# EAGLE library part CY8C29466-28PIN (library FlashPCB_ICs)
CY8C29466 - 32KB FLASH 28SOIC Technical Specifications: Number of I/O: 24 Core Size: 8-Bit Speed: 24MHz Voltage - Supply (Vcc/Vdd): 3V ~ 5.25V Operating Temperature: -40°C ~ 85°C (TA) Component Search: CY8C29466/CY8C29566/CY8C29666/CY8C29866, PSoC® Programmable System-on-Chip™ <[FLASHPCB URL]> Datasheet: CY8C29466/CY8C29566/CY8C29666/CY8C29866, PSoC® Programmable System-on-Chip™ <https://www.infineon.com/dgdl/Infineon-CY8C29466_CY8C29566_CY8C29666_CY8C29866_PSoC_Programmable_System-on-Chip-DataSheet-v31_00-EN.pdf?fileId=8ac78c8c7d0d8da4017d0ec690c03ce1&utm_source=cypress&utm_medium=referral&utm_campaign=202110_globe_en_all_integra>
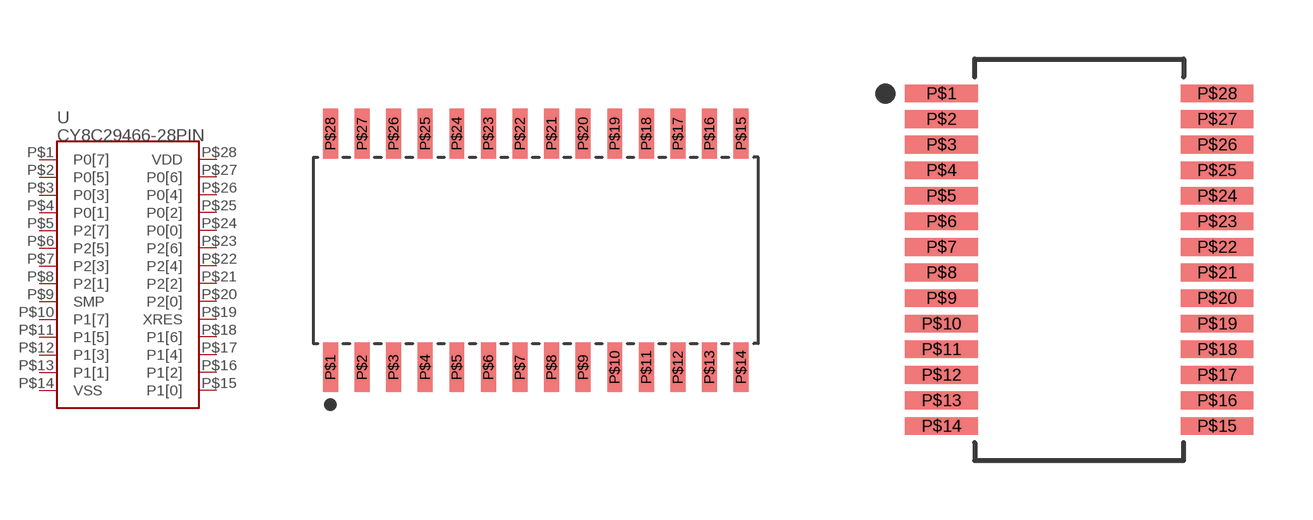
[diagram p36: symbol with the pads of 28-SOIC-7.5MM; footprints 28-SOIC-7.5MM, 28-SSOP]

Designator prefix U

## CY8C29466-28PIN  [28-SOIC-7.5MM]
P$1  P0[7]
P$2  P0[5]
P$3  P0[3]
P$4  P0[1]
P$5  P2[7]
P$6  P2[5]
P$7  P2[3]
P$8  P2[1]
P$9  SMP
P$10  P1[7]
P$11  P1[5]
P$12  P1[3]
P$13  P1[1]
P$14  VSS
P$15  P1[0]
P$16  P1[2]
P$17  P1[4]
P$18  P1[6]
P$19  XRES
P$20  P2[0]
P$21  P2[2]
P$22  P2[4]
P$23  P2[6]
P$24  P0[0]
P$25  P0[2]
P$26  P0[4]
P$27  P0[6]
P$28  VDD

## CY8C29466-28PIN28-SSOP  [28-SSOP]
Pads as for 28-SOIC-7.5MM

## Footprint 28-SOIC-7.5MM (pad centres in mm)
smd 0.6 x 2: P$1 -8.255,-4.7; P$2 -6.985,-4.7; P$3 -5.715,-4.7; P$4 -4.445,-4.7; P$5 -3.175,-4.7; P$6 -1.905,-4.7; P$7 -0.635,-4.7; P$8 0.635,-4.7; P$9 1.905,-4.7; P$10 3.175,-4.7; P$11 4.445,-4.7; P$12 5.715,-4.7; P$13 6.985,-4.7; P$14 8.255,-4.7; P$15 8.255,4.7; P$16 6.985,4.7; P$17 5.715,4.7; P$18 4.445,4.7; P$19 3.175,4.7; P$20 1.905,4.7; P$21 0.635,4.7; P$22 -0.635,4.7; P$23 -1.905,4.7; P$24 -3.175,4.7; P$25 -4.445,4.7; P$26 -5.715,4.7; P$27 -6.985,4.7; P$28 -8.255,4.7

## Footprint 28-SSOP (pad centres in mm)
smd 1.85 x 0.45: P$1 -3.5,4.225; P$2 -3.5,3.575; P$3 -3.5,2.925; P$4 -3.5,2.275; P$5 -3.5,1.625; P$6 -3.5,0.975; P$7 -3.5,0.325; P$8 -3.5,-0.325; P$9 -3.5,-0.975; P$10 -3.5,-1.625; P$11 -3.5,-2.275; P$12 -3.5,-2.925; P$13 -3.5,-3.575; P$14 -3.5,-4.225; P$15 3.5,-4.225; P$16 3.5,-3.575; P$17 3.5,-2.925; P$18 3.5,-2.275; P$19 3.5,-1.625; P$20 3.5,-0.975; P$21 3.5,-0.325; P$22 3.5,0.325; P$23 3.5,0.975; P$24 3.5,1.625; P$25 3.5,2.275; P$26 3.5,2.925; P$27 3.5,3.575; P$28 3.5,4.225